# Altium footprint library Components.PcbLib: 8 footprints
Each footprint in its own frame and in the unit in brackets; x right, y up, seen from the top. Pads: shape width x height; smd on the part's side, far side on the other; paste and mask are expansions set on the pad; w line width, h text height; cw(c..) or ccw(c..) is an arc to the next point about the centre after c.
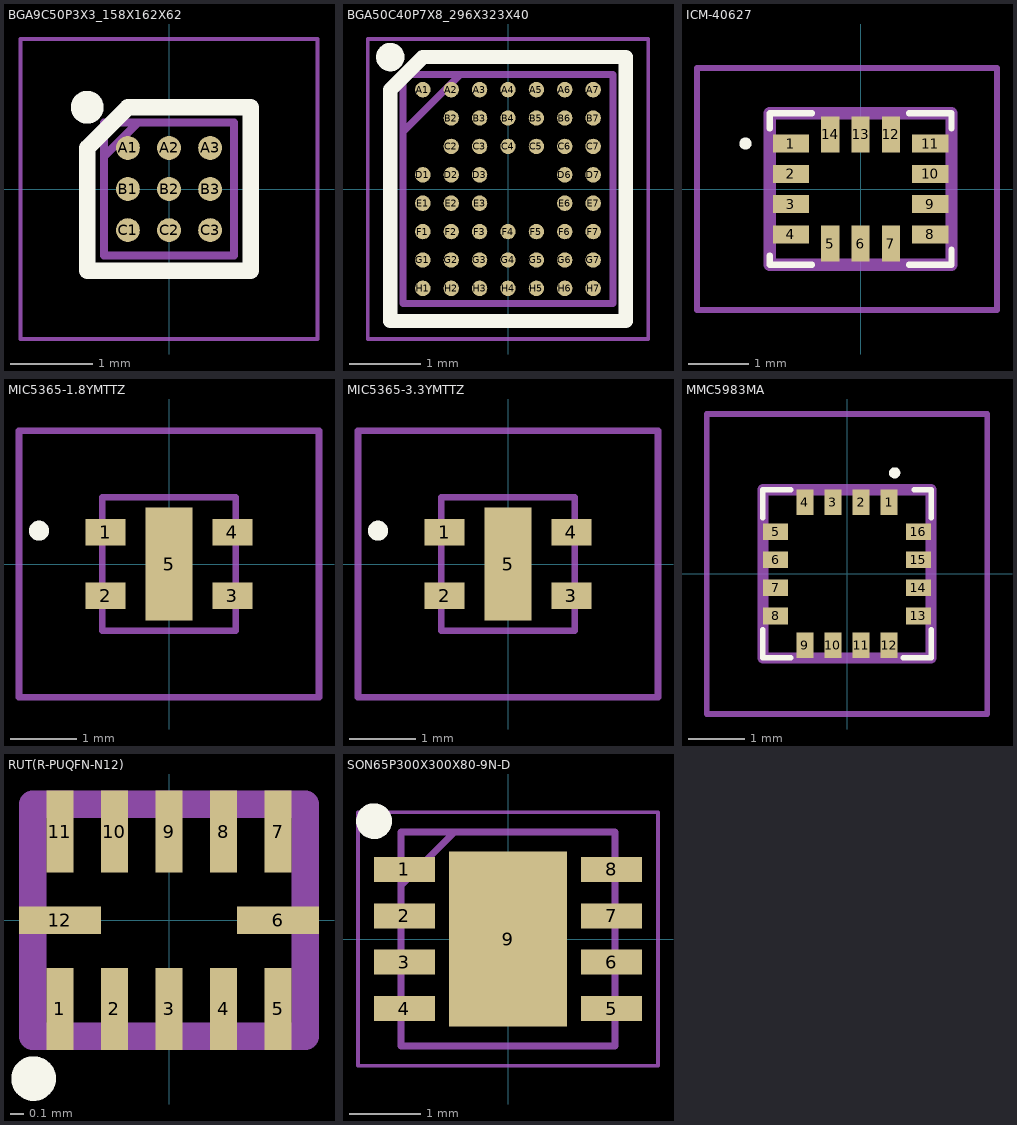
[diagram p0: the footprints below, top view; thin cyan lines are the x and y axes]

## BGA9C50P3X3_158X162X62 [mm]
pads (9):
  round 0.29 smd: A1(-0.5,0.5) A2(0,0.5) A3(0.5,0.5) B1(-0.5,0) B2(0,0) B3(0.5,0) C1(-0.5,-0.5) C2(0,-0.5) C3(0.5,-0.5)
Top Overlay:
  circle w0.2: c-0.995,0.995 r0.1
  lines w0.2: -0.995,-0.995 0.995,-0.995 0.995,0.995 -0.5,0.995 -0.995,0.5 -0.995,-0.995
Mechanical 13:
  lines w0.1: -0.79,0.398 -0.377,0.811 ; -0.79,-0.81 0.79,-0.81 0.79,0.81 -0.79,0.81 -0.79,-0.81
Mechanical 15:
  lines w0.05: -1.805,-1.825 1.805,-1.825 1.805,1.826 -1.805,1.826 -1.805,-1.825
3D body "BQ27220YZFR.stp": height 0.63, standoff 0, extent -0.79,-0.81 0.79,0.81

## BGA50C40P7X8_296X323X40 [mm]
pads (50):
  round 0.217 smd: A1(-1.2,1.4) A2(-0.8,1.4) A3(-0.4,1.4) A4(0,1.4) A5(0.4,1.4) A6(0.8,1.4) A7(1.2,1.4) B2(-0.8,1) B3(-0.4,1) B4(0,1) B5(0.4,1) B6(0.8,1) B7(1.2,1) C2(-0.8,0.6) C3(-0.4,0.6) C4(0,0.6) C5(0.4,0.6) C6(0.8,0.6) C7(1.2,0.6) D1(-1.2,0.2) D2(-0.8,0.2) D3(-0.4,0.2) D6(0.8,0.2) D7(1.2,0.2) E1(-1.2,-0.2) E2(-0.8,-0.2) E3(-0.4,-0.2) E6(0.8,-0.2) E7(1.2,-0.2) F1(-1.2,-0.6) F2(-0.8,-0.6) F3(-0.4,-0.6) F4(0,-0.6) F5(0.4,-0.6) F6(0.8,-0.6) F7(1.2,-0.6) G1(-1.2,-1) G2(-0.8,-1) G3(-0.4,-1) G4(0,-1) G5(0.4,-1) G6(0.8,-1) G7(1.2,-1) H1(-1.2,-1.4) H2(-0.8,-1.4) H3(-0.4,-1.4) H4(0,-1.4) H5(0.4,-1.4) H6(0.8,-1.4) H7(1.2,-1.4)
Top Overlay:
  circle w0.2: c-1.658,1.858 r0.1
  lines w0.2: -1.201,1.857 -1.659,1.399 -1.659,-1.859 1.658,-1.859 1.658,1.858 -1.2,1.858
Mechanical 13:
  lines w0.1: -1.478,0.806 -0.672,1.612 ; -1.478,-1.613 -1.478,1.613 1.478,1.613 1.478,-1.613 -1.478,-1.613
Mechanical 15:
  lines w0.05: -1.978,-2.113 -1.978,2.113 1.978,2.113 1.978,-2.113 -1.978,-2.113
3D body "nRF52832-CIAA-G-R7.stp": height 0.4, standoff 0, extent -1.478,-1.613 1.478,1.613

## ICM-40627 [mm]
pads (14):
  rect 0.6x0.3 smd: 1(-1.15,0.75) 2(-1.15,0.25) 3(-1.15,-0.25) 4(-1.15,-0.75) 8(1.15,-0.75) 9(1.15,-0.25) 10(1.15,0.25) 11(1.15,0.75)
  rect 0.3x0.6 smd: 5(-0.5,-0.9) 6(0,-0.9) 7(0.5,-0.9) 12(0.5,0.9) 13(0,0.9) 14(-0.5,0.9)
Top Overlay:
  lines w0.1: -1.5,-1.1 -1.5,-1.25 -0.8,-1.25 ; -1.5,1 -1.5,1.25 -0.8,1.25 ; 0.8,-1.25 1.5,-1.25 1.5,-1 ; 0.8,1.25 1.5,1.25 1.5,1 ; -1.9,0.7 cw(c-1.9,0.75) -1.9,0.8 cw(c-1.9,0.75) -1.9,0.7
Mechanical 13:
  lines w0.2: -1.5,-1.25 1.5,-1.25 1.5,1.25 -1.5,1.25 -1.5,-1.25
Mechanical 15:
  lines w0.1: -2.7,-2 2.25,-2 2.25,2 -2.7,2 -2.7,-2
3D body "ICM-40627.stp": height 0.9, standoff -0.01, extent -1.5,-1.25 1.5,1.25

## MIC5365-1.8YMTTZ [mm]
pads (5):
  rect 0.6x0.4 smd: 1(-0.95,0.475) 2(-0.95,-0.475) 3(0.95,-0.475) 4(0.95,0.475)
  rect 0.7x1.7 smd: 5(0,0)
Top Overlay:
  lines w0.2: -2,0.5 ccw(c-1.95,0.5) -1.9,0.5 ; -2,0.5 cw(c-1.95,0.5) -1.9,0.5 ; -2,0.5 ccw(c-1.95,0.5) -1.9,0.5
Mechanical 13:
  lines w0.1: -1,-1 1,-1 1,1 -1,1 -1,-1
Mechanical 15:
  lines w0.1: -2.25,-2 2.25,-2 2.25,2 -2.25,2 -2.25,-2
3D body "ENS210-LQFM.stp": height 0.9, standoff 0, extent -1.21,-1 1.21,1

## MIC5365-3.3YMTTZ [mm]
pads (5):
  rect 0.6x0.4 smd: 1(-0.95,0.475) 2(-0.95,-0.475) 3(0.95,-0.475) 4(0.95,0.475)
  rect 0.7x1.7 smd: 5(0,0)
Top Overlay:
  lines w0.2: -2,0.5 ccw(c-1.95,0.5) -1.9,0.5 ; -2,0.5 cw(c-1.95,0.5) -1.9,0.5 ; -2,0.5 ccw(c-1.95,0.5) -1.9,0.5
Mechanical 13:
  lines w0.1: -1,-1 -1,1 1,1 1,-1 -1,-1
Mechanical 15:
  lines w0.1: -2.25,-2 -2.25,2 2.25,2 2.25,-2 -2.25,-2
3D body "ENS210-LQFM.stp": height 0.9, standoff 0, extent -1.21,-1 1.21,1

## MMC5983MA [mm]
pads (16):
  rect 0.3x0.45 smd: 1(0.75,1.275) 2(0.25,1.275) 3(-0.25,1.275) 4(-0.75,1.275) 9(-0.75,-1.275) 10(-0.25,-1.275) 11(0.25,-1.275) 12(0.75,-1.275)
  rect 0.45x0.3 smd: 5(-1.275,0.75) 6(-1.275,0.25) 7(-1.275,-0.25) 8(-1.275,-0.75) 13(1.275,-0.75) 14(1.275,-0.25) 15(1.275,0.25) 16(1.275,0.75)
Top Overlay:
  lines w0.1: -1.5,-1 -1.5,-1.5 -1,-1.5 ; -1.5,1 -1.5,1.5 -1,1.5 ; 1,-1.5 1.5,-1.5 1.5,-1 ; 1.2,1.5 1.5,1.5 1.5,1 ; 0.8,1.8 ccw(c0.85,1.8) 0.9,1.8 ccw(c0.85,1.8) 0.8,1.8
Mechanical 13:
  lines w0.2: -1.5,-1.5 1.5,-1.5 1.5,1.5 -1.5,1.5 -1.5,-1.5
Mechanical 15:
  lines w0.1: -2.5,-2.5 2.5,-2.5 2.5,2.85 -2.5,2.85 -2.5,-2.5
3D body "MMC5983MA.stp": height 1, standoff 0, extent -1.5,-1.32 1.5,1.68

## RUT(R-PUQFN-N12) [mm]
pads (12):
  rect 0.2x0.6 smd: 1(-0.8,-0.65) 2(-0.4,-0.65) 3(0,-0.65) 4(0.4,-0.65) 5(0.8,-0.65) 7(0.8,0.65) 8(0.4,0.65) 9(0,0.65) 10(-0.4,0.65) 11(-0.8,0.65)
  rect 0.6x0.2 smd: 6(0.8,0) 12(-0.8,0)
Top Overlay:
  circle w0.2: c-0.993,-1.161 r0.064
Mechanical 13:
  lines w0.2: -1,-0.85 -1,0.85 1,0.85 1,-0.85 -1,-0.85
3D body "LSF0204RUTR.stp": height 0.55, standoff 0, extent -1,-0.85 1,0.85

## SON65P300X300X80-9N-D [mm]
pads (9):
  rect 0.85x0.35 smd: 1(-1.45,0.975) 2(-1.45,0.325) 3(-1.45,-0.325) 4(-1.45,-0.975) 5(1.45,-0.975) 6(1.45,-0.325) 7(1.45,0.325) 8(1.45,0.975)
  rect 1.65x2.45 smd: 9(0,0)
Top Overlay:
  circle w0.25: c-1.875,1.65 r0.125
Mechanical 13:
  lines w0.1: -1.5,0.75 -0.75,1.5 ; -1.5,-1.5 -1.5,1.5 1.5,1.5 1.5,-1.5 -1.5,-1.5
Mechanical 15:
  lines w0.05: -2.1,-1.775 -2.1,1.775 2.1,1.775 2.1,-1.775 -2.1,-1.775
3D body "TSB582IYQ2T.stp": height 0.8, standoff 0, extent -1.55,-1.5 1.55,1.5